# EAGLE library part LTC2642IMS-16 (library my)
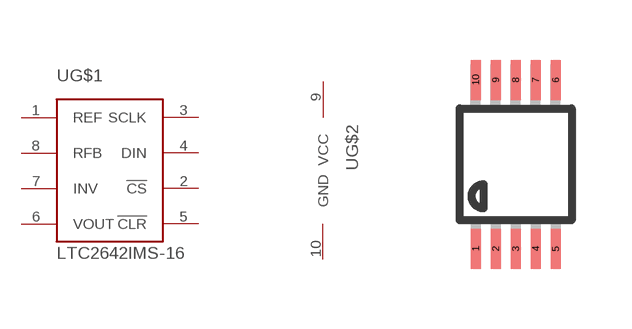
[diagram p1: symbol with the pads of MSOP10; footprint MSOP10]

Designator prefix -; gates G$1=LTC2642 G$2=VCC_GND

## LTC2642IMS-16 (DIGIKEY: LTC2642IMS-16#TRPBFCT-ND)  [MSOP10]
1  G$1:REF
2  G$1:!CS
3  G$1:SCLK
4  G$1:DIN
5  G$1:!CLR
6  G$1:VOUT
7  G$1:INV
8  G$1:RFB
9  G$2:VCC
10  G$2:GND

## Footprint MSOP10 (pad centres in mm)
10-Lead Mini Small Outline Package [MSOP] (RM-10) Source: http://www.analog.com/UploadedFiles/Data_Sheets/35641221898805SSM2167_b.pdf COMPLIANT TO JEDEC STANDARDS MO-187BA
smd 0.25 x 1: 1 -1,-2.113; 2 -0.5,-2.113; 3 0,-2.113; 4 0.5,-2.113; 5 1,-2.113; 6 1,2.113; 7 0.5,2.113; 8 0,2.113; 9 -0.5,2.113; 10 -1,2.113